# EAGLE library part TLV5613 (library tlv56xx)
2.7 to 5.5V 12-Bit Parallel DAC with power down
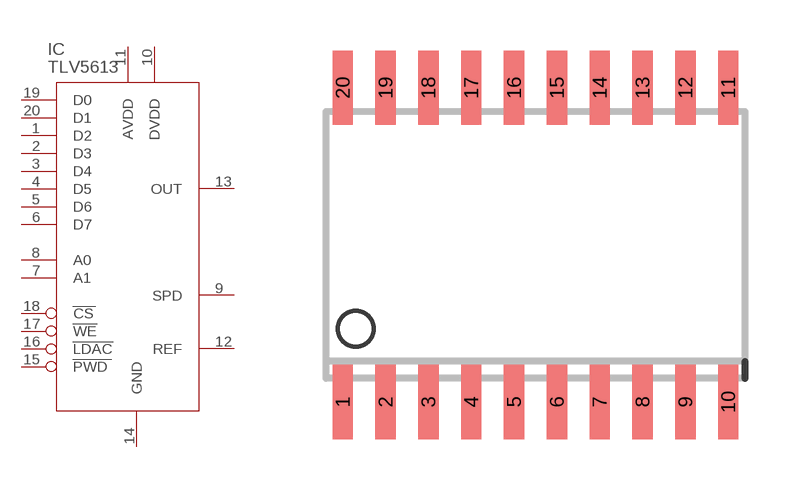
[diagram p2: symbol with the pads of SOIC-20; footprint SOIC-20]

Designator prefix IC

## TLV5613DW  [SOIC-20]
1  D2  in
2  D3  in
3  D4  in
4  D5  in
5  D6  in
6  D7  in
7  A1  in
8  A0  in
9  SPD  in
10  DVDD  in
11  AVDD  pwr
12  REF  in
13  OUT  out
14  GND  pwr
15  PWD  in
16  LDAC  in
17  WE  in
18  CS  in
19  D0  in
20  D1  in

## Footprint SOIC-20 (pad centres in mm)
smd 0.6 x 2.2: 1 -5.842,-4.886; 2 -4.572,-4.886; 3 -3.302,-4.886; 4 -2.032,-4.886; 5 -0.762,-4.886; 6 0.508,-4.886; 7 1.778,-4.886; 8 3.048,-4.886; 9 4.318,-4.889; 10 5.588,-4.889; 11 5.588,4.432; 12 4.318,4.432; 13 3.048,4.429; 14 1.778,4.429; 15 0.508,4.429; 16 -0.762,4.429; 17 -2.032,4.429; 18 -3.302,4.429; 19 -4.572,4.429; 20 -5.842,4.429